# Altium footprint library APM32F030K8T6核心板PCB库.PcbLib: 9 footprints
Each footprint in its own frame and in the unit in brackets; x right, y up, seen from the top. Pads: shape width x height; smd on the part's side, far side on the other; paste and mask are expansions set on the pad; w line width, h text height; cw(c..) or ccw(c..) is an arc to the next point about the centre after c.
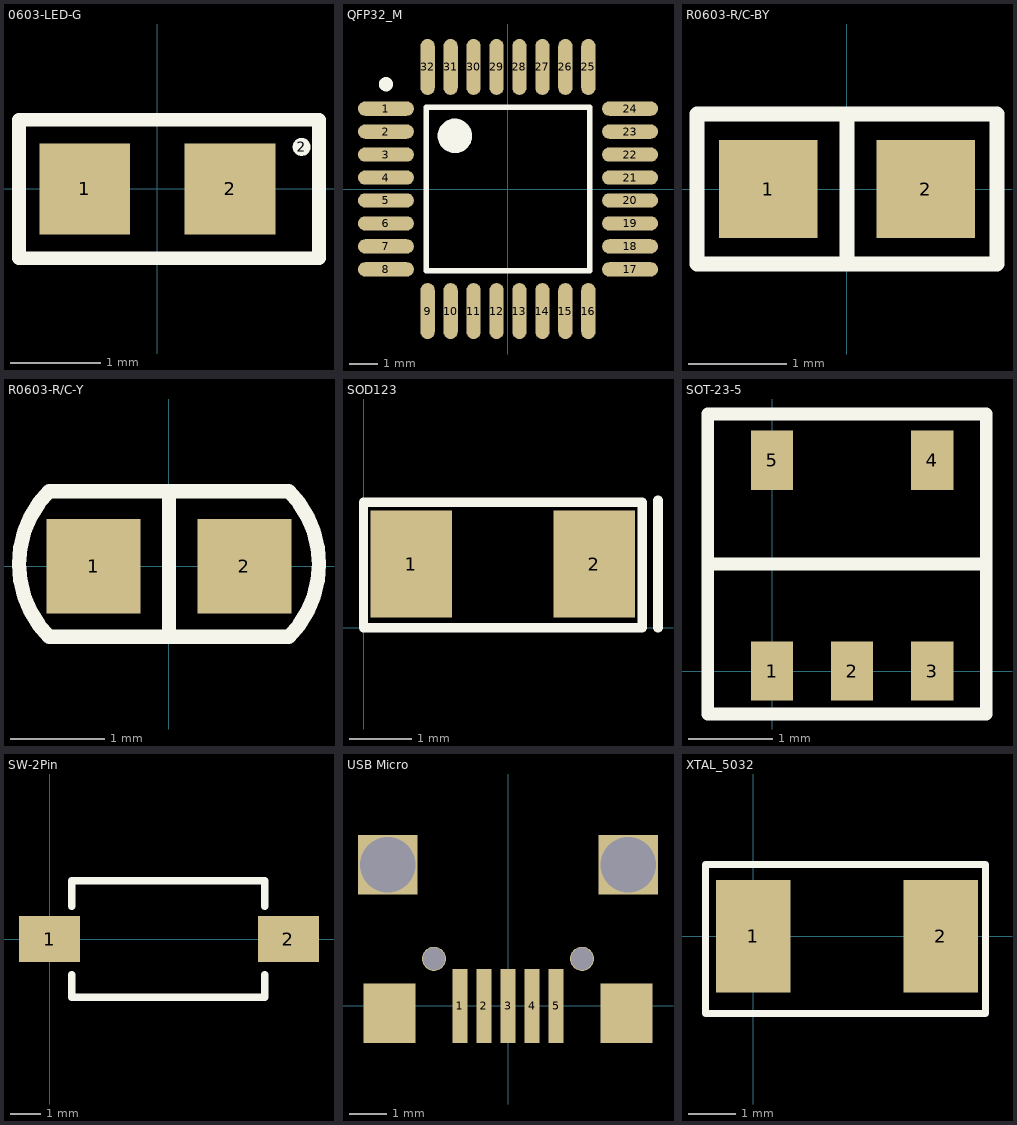
[diagram p0: the footprints below, top view; thin cyan lines are the x and y axes]

## 0603-LED-G [mm]
pads (3):
  rect 1x1 smd: 1(-0.8,0) 2(0.8,0)
  round 0.2 on Top Overlay mask+0: 2(1.587,0.463)
Top Overlay:
  lines w0.152: -1.524,-0.762 -1.524,0.762 1.778,0.762 1.778,-0.762 -1.524,-0.762
3D body: height 0.38, standoff 0, extent 0.633,0.12 0.832,0.32
3D body "LED SMD0603_G.STEP": height 0.68, standoff 0, extent -0.8,-0.395 0.85,0.33

## QFP32_M [mm] "32-Pin Quad Flat Pack 0.8 mm Pitch, IPC Low Density"
height 1.85
pads (32):
  oval 1.95x0.5 smd: 1(-4.25,2.8) 2(-4.25,2) 3(-4.25,1.2) 4(-4.25,0.4) 5(-4.25,-0.4) 6(-4.25,-1.2) 7(-4.25,-2) 8(-4.25,-2.8) 17(4.25,-2.8) 18(4.25,-2) 19(4.25,-1.2) 20(4.25,-0.4) 21(4.25,0.4) 22(4.25,1.2) 23(4.25,2) 24(4.25,2.8)
  oval 0.5x1.95 smd: 9(-2.8,-4.25) 10(-2,-4.25) 11(-1.2,-4.25) 12(-0.4,-4.25) 13(0.4,-4.25) 14(1.2,-4.25) 15(2,-4.25) 16(2.8,-4.25) 25(2.8,4.25) 26(2,4.25) 27(1.2,4.25) 28(0.4,4.25) 29(-0.4,4.25) 30(-1.2,4.25) 31(-2,4.25) 32(-2.8,4.25)
Top Overlay:
  circle w0.6: c-1.85,1.85 r0.3
  circle w0.25: c-4.25,3.65 r0.125
  lines w0.2: -2.85,-2.85 2.85,-2.85 2.85,2.85 -2.85,2.85 -2.85,-2.85
3D body "User Library-LQFP32.STEP": height 1.63, standoff -0.09, extent -4.5,-4.555 4.5,4.445

## R0603-R/C-BY [mm]
pads (2):
  rect 1x1 smd: 1(-0.8,0) 2(0.8,0)
Top Overlay:
  lines w0.152: 0,-0.762 0,0.762 ; -1.524,-0.762 1.524,-0.762 1.524,0.762 -1.524,0.762 -1.524,-0.762
3D body "0603-BY.STEP": height 0.79, standoff 0, extent -0.975,-0.356 1.026,0.432

## R0603-R/C-Y [mm]
pads (2):
  rect 1x1 smd: 1(-0.8,0) 2(0.8,0)
Top Overlay:
  lines w0.152: 0,-0.748 0,0.798 ; -1.27,-0.748 cw(c-0.497,0.025) -1.27,0.798 1.27,0.798 cw(c0.497,0.025) 1.27,-0.748 -1.27,-0.748
3D body "0603-y.STEP": height 0.79, standoff 0, extent -0.975,-0.356 1.026,0.432

## SOD123 [mm]
height 2
pads (2):
  rect 1.3x1.7 smd: 1(0.762,1.016) 2(3.683,1.016)
Top Overlay:
  lines w0.15: 0,0 4.445,0 4.445,2 0,2 0,0
  lines w0.152: 4.699,0 4.699,2.032
3D body "User Library-SOD-123.STEP": height 1.25, standoff 0, extent 0.31,0.216 4.008,1.816

## SOT-23-5 [mm]
height 1.45
pads (5):
  rect 0.5x0.7 smd: 1(0,0) 2(0.95,0) 3(1.9,0) 4(1.9,2.5) 5(0,2.5)
Top Overlay:
  lines w0.152: -0.762,1.27 2.54,1.27 ; -0.762,-0.508 2.54,-0.508 2.54,3.048 -0.762,3.048 -0.762,-0.508
3D body "CircuitWorks-SOT-23-5.step": height 1.05, standoff -0.05, extent -0.611,0.02 2.389,2.52

## SW-2Pin [mm]
pads (2):
  rect 2x1.5 smd: 1(0,0) 2(7.8,0)
Top Overlay:
  lines w0.254: 0.725,-1.168 0.725,-1.9 7.025,-1.9 7.025,-1.168 ; 0.725,1.067 0.725,1.9 7.025,1.9 7.025,1.067
3D body "SMD按键.STEP": height 2.5, standoff 0, extent -0.059,-1.945 7.831,1.905

## USB Micro [mm]
height 2.35
pads (11):
  rect 0.4x2 smd: 1(-1.3,0) 2(-0.65,0) 3(0,0) 4(0.65,0) 5(1.3,0)
  rect 1.6x1.6 hole 1.5: ""(-3.25,3.81) ""(3.25,3.81)
  rect 1.4x1.6 smd: ""(-3.2,-0.2) ""(3.2,-0.2)
  round 0.65 hole 0.6 unplated: ""(-2,1.27) ""(2,1.27)
3D body "1521869_1981584-1.stp": height 2.83, standoff -0.23, extent -4.4,0.127 4.4,5.727

## XTAL_5032 [mm]
height 2.4
pads (2):
  rect 1.6x2.4 smd: 1(0,0) 2(4,0)
Top Overlay:
  lines w0.152: -1.016,-1.651 -1.016,1.524 4.953,1.524 4.953,-1.651 -1.016,-1.651
3D body "User Library-cry_5032.step": height 1.3, standoff 0, extent -0.468,-1.676 4.532,1.524